# Altium schematic symbol library MMPQ3904.SchLib: 1 symbol
Pins are listed as number, name and electrical type; pins without a type are passive.

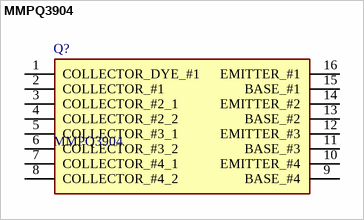
[diagram p0: symbol MMPQ3904]

## MMPQ3904
designator Q?
ON Semi MMPQ3904 Quad NPN Transistor, 200 mA, 40 V, 16-Pin SOIC; Manufacturer_Name: onsemi; Geometry.Height: 1.75mm; Mouser Part Number: 512-MMPQ3904; Mouser Price/Stock: https://www.mouser.co.uk/ProductDetail/onsemi-Fairchild/MMPQ3904?qs=SSucg2PyLi5H3QPy2I7RHw%3D%3D; Manufacturer_Part_Number: MMPQ3904; Datasheet Link: http://www.onsemi.com/pub_link/Collateral/MMPQ3904-D.PDF
footprint SOIC127P600X175-16N
pins: 1 COLLECTOR_DYE_#1, 2 COLLECTOR_#1, 3 COLLECTOR_#2_1, 4 COLLECTOR_#2_2, 5 COLLECTOR_#3_1, 6 COLLECTOR_#3_2, 7 COLLECTOR_#4_1, 8 COLLECTOR_#4_2, 9 BASE_#4, 10 EMITTER_#4, 11 BASE_#3, 12 EMITTER_#3, 13 BASE_#2, 14 EMITTER_#2, 15 BASE_#1, 16 EMITTER_#1